# EAGLE library part M41T00 (library 000001)
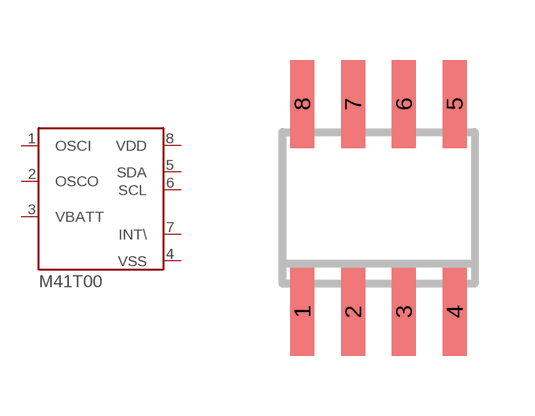
[diagram p92: symbol with the pads of SO-08; footprint SO-08]

Designator prefix -

## M41T00  [SO-08]
1  OSCI  in
2  OSCO  out
3  VBATT  in
4  VSS  pwr
5  SDA
6  SCL  in
7  INT\  out
8  VDD  pwr

## Footprint SO-08 (pad centres in mm)
Small Outline Narrow Plastic Gull Wing 150-mil body, package type SN
smd 0.6 x 2.2: 1 -1.905,-2.6; 2 -0.635,-2.6; 3 0.635,-2.6; 4 1.905,-2.6; 5 1.905,2.6; 6 0.635,2.6; 7 -0.635,2.6; 8 -1.905,2.6